# EAGLE library part ATMEGA8 (library atmel)
8-bit AVR Microcontroller 8 Kbytes FLASH 1 kbytes SRAM 512 bytes EEPROM USART 6/8-channel 10 bit ADC Pin compatible with Atmega48, ATMega88, ATMega168 Note: ADC6 and ADC7 are not available in 28-lead DIL package
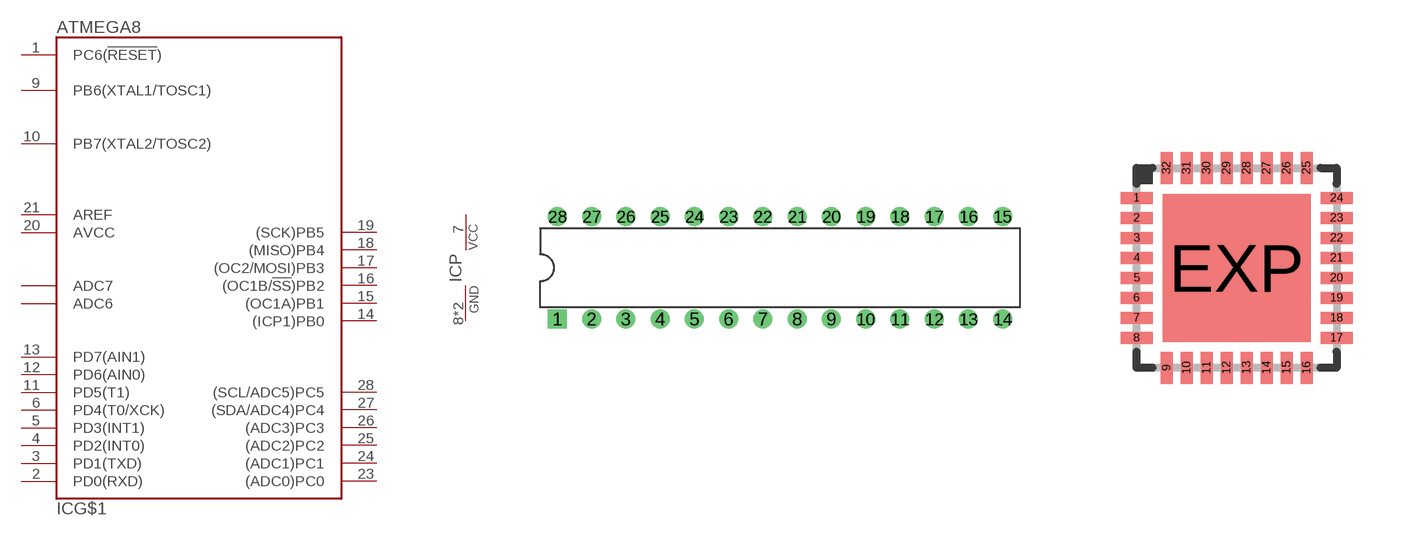
[diagram p35: symbol with the pads of DIL28-3; footprints DIL28-3, QFN32_5X5_0.50]

Designator prefix IC; gates G$1=MEGA8 P=PWR

## ATMEGA8-16PU, ATMEGA8A-PU, ATMEGA8L-8PU  [DIL28-3]
1  G$1:PC6(!RESET!)
2  G$1:PD0(RXD)
3  G$1:PD1(TXD)
4  G$1:PD2(INT0)
5  G$1:PD3(INT1)
6  G$1:PD4(T0/XCK)
7  P:VCC  pwr
8  P:GND  pwr
9  G$1:PB6(XTAL1/TOSC1)
10  G$1:PB7(XTAL2/TOSC2)
11  G$1:PD5(T1)
12  G$1:PD6(AIN0)
13  G$1:PD7(AIN1)
14  G$1:(ICP1)PB0
15  G$1:(OC1A)PB1
16  G$1:(OC1B/!SS!)PB2
17  G$1:(OC2/MOSI)PB3
18  G$1:(MISO)PB4
19  G$1:(SCK)PB5
20  G$1:AVCC  pwr
21  G$1:AREF  pas
22  P:GND  pwr
23  G$1:(ADC0)PC0
24  G$1:(ADC1)PC1
25  G$1:(ADC2)PC2
26  G$1:(ADC3)PC3
27  G$1:(SDA/ADC4)PC4
28  G$1:(SCL/ADC5)PC5

## ATMEGA8-16PN, ATMEGA8A-PN, ATMEGA8L-8PN  [DIL28-3]
Pads as for DIL28-3

## ATMEGA8-16MU, ATMEGA8A-MU, ATMEGA8L-8MU  [QFN32_5X5_0.50]
1  G$1:PD3(INT1)
2  G$1:PD4(T0/XCK)
3  P:GND  pwr
4  P:VCC  pwr
5  P:GND  pwr
6  P:VCC  pwr
7  G$1:PB6(XTAL1/TOSC1)
8  G$1:PB7(XTAL2/TOSC2)
9  G$1:PD5(T1)
10  G$1:PD6(AIN0)
11  G$1:PD7(AIN1)
12  G$1:(ICP1)PB0
13  G$1:(OC1A)PB1
14  G$1:(OC1B/!SS!)PB2
15  G$1:(OC2/MOSI)PB3
16  G$1:(MISO)PB4
17  G$1:(SCK)PB5
18  G$1:AVCC  pwr
19  G$1:ADC6
20  G$1:AREF  pas
21  P:GND  pwr
22  G$1:ADC7
23  G$1:(ADC0)PC0
24  G$1:(ADC1)PC1
25  G$1:(ADC2)PC2
26  G$1:(ADC3)PC3
27  G$1:(SDA/ADC4)PC4
28  G$1:(SCL/ADC5)PC5
29  G$1:PC6(!RESET!)
30  G$1:PD0(RXD)
31  G$1:PD1(TXD)
32  G$1:PD2(INT0)
EXP  P:GND  pwr

## ATMEGA8-16MN, ATMEGA8A-MN, ATMEGA8L-8MN  [QFN32_5X5_0.50]
Pads as for QFN32_5X5_0.50

## ATMEGA8-16AU, ATMEGA8A-AU, ATMEGA8L-8AU  [QFP32_7X7_0.80]
1  G$1:PD3(INT1)
2  G$1:PD4(T0/XCK)
3  P:GND  pwr
4  P:VCC  pwr
5  P:GND  pwr
6  P:VCC  pwr
7  G$1:PB6(XTAL1/TOSC1)
8  G$1:PB7(XTAL2/TOSC2)
9  G$1:PD5(T1)
10  G$1:PD6(AIN0)
11  G$1:PD7(AIN1)
12  G$1:(ICP1)PB0
13  G$1:(OC1A)PB1
14  G$1:(OC1B/!SS!)PB2
15  G$1:(OC2/MOSI)PB3
16  G$1:(MISO)PB4
17  G$1:(SCK)PB5
18  G$1:AVCC  pwr
19  G$1:ADC6
20  G$1:AREF  pas
21  P:GND  pwr
22  G$1:ADC7
23  G$1:(ADC0)PC0
24  G$1:(ADC1)PC1
25  G$1:(ADC2)PC2
26  G$1:(ADC3)PC3
27  G$1:(SDA/ADC4)PC4
28  G$1:(SCL/ADC5)PC5
29  G$1:PC6(!RESET!)
30  G$1:PD0(RXD)
31  G$1:PD1(TXD)
32  G$1:PD2(INT0)

## ATMEGA8-16AN, ATMEGA8A-AN, ATMEGA8L-8AN  [QFP32_7X7_0.80]
Pads as for QFP32_7X7_0.80

## Footprint DIL28-3 (pad centres in mm)
DIL package, pin row distance 300mil
drill 0.8 pad 1.4 square: 1 -16.51,-3.81
drill 0.8 pad 1.4: 2 -13.97,-3.81; 3 -11.43,-3.81; 4 -8.89,-3.81; 5 -6.35,-3.81; 6 -3.81,-3.81; 7 -1.27,-3.81; 8 1.27,-3.81; 9 3.81,-3.81; 10 6.35,-3.81; 11 8.89,-3.81; 12 11.43,-3.81; 13 13.97,-3.81; 14 16.51,-3.81; 15 16.51,3.81; 16 13.97,3.81; 17 11.43,3.81; 18 8.89,3.81; 19 6.35,3.81; 20 3.81,3.81; 21 1.27,3.81; 22 -1.27,3.81; 23 -3.81,3.81; 24 -6.35,3.81; 25 -8.89,3.81; 26 -11.43,3.81; 27 -13.97,3.81; 28 -16.51,3.81

## Footprint QFN32_5X5_0.50 (pad centres in mm)
32-Lead Plastic QFN, 5mm x 5mm body, 0.5mm lead pitch, exposed pad ATMEL Code: 32M1-A Micro Lead Frame package (MLF) NXP Code: SOT617
smd 0.8 x 0.3: 1 -2.5,1.75; 2 -2.5,1.25; 3 -2.5,0.75; 4 -2.5,0.25; 5 -2.5,-0.25; 6 -2.5,-0.75; 7 -2.5,-1.25; 8 -2.5,-1.75; 17 2.5,-1.75; 18 2.5,-1.25; 19 2.5,-0.75; 20 2.5,-0.25; 21 2.5,0.25; 22 2.5,0.75; 23 2.5,1.25; 24 2.5,1.75
smd 0.3 x 0.8: 9 -1.75,-2.5; 10 -1.25,-2.5; 11 -0.75,-2.5; 12 -0.25,-2.5; 13 0.25,-2.5; 14 0.75,-2.5; 15 1.25,-2.5; 16 1.75,-2.5; 25 1.75,2.5; 26 1.25,2.5; 27 0.75,2.5; 28 0.25,2.5; 29 -0.25,2.5; 30 -0.75,2.5; 31 -1.25,2.5; 32 -1.75,2.5
smd 3.7 x 3.7: EXP 0,0

## Footprint QFP32_7X7_0.80 (pad centres in mm)
Thin Plasic Quad Flat Package, 7mm x 7mm body, 0.80mm lead pitch JEDEC: MS-026 ABA ATMEL Code: 32A
smd 1.5 x 0.55: 1 -4.2,2.8; 2 -4.2,2; 3 -4.2,1.2; 4 -4.2,0.4; 5 -4.2,-0.4; 6 -4.2,-1.2; 7 -4.2,-2; 8 -4.2,-2.8; 17 4.2,-2.8; 18 4.2,-2; 19 4.2,-1.2; 20 4.2,-0.4; 21 4.2,0.4; 22 4.2,1.2; 23 4.2,2; 24 4.2,2.8
smd 0.55 x 1.5: 9 -2.8,-4.2; 10 -2,-4.2; 11 -1.2,-4.2; 12 -0.4,-4.2; 13 0.4,-4.2; 14 1.2,-4.2; 15 2,-4.2; 16 2.8,-4.2; 25 2.8,4.2; 26 2,4.2; 27 1.2,4.2; 28 0.4,4.2; 29 -0.4,4.2; 30 -1.2,4.2; 31 -2,4.2; 32 -2.8,4.2